# Altium schematic symbol library Mechanical_components.SchLib: 7 symbols
Pins are listed as number, name and electrical type; pins without a type are passive.

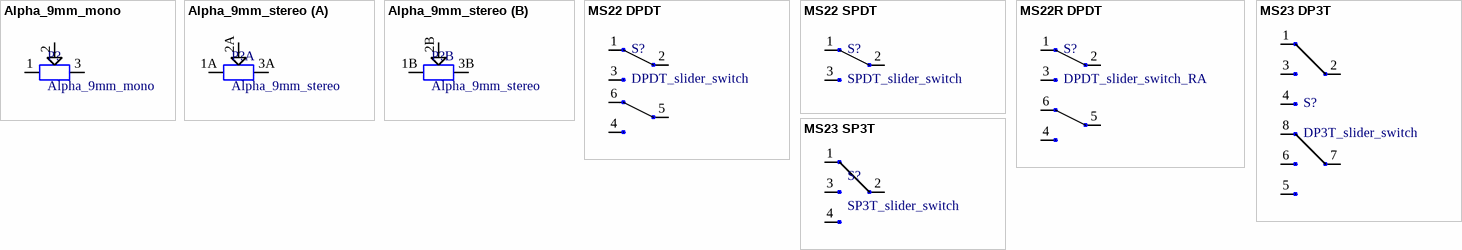
[diagram p0: symbols Alpha_9mm_mono to MS23 SP3T]

## Alpha_9mm_mono
designator P?
Alpha 9mm mono potentiometer THT; Value: *; Taper: *
footprint Alpha_9mm_mono
pins: 1, 2, 3

## Alpha_9mm_stereo
designator P?
Alpha 9mm stereo potentiometer THT; Value: *; Taper: *
footprint Alpha_9mm_stereo
part A pins: 1A, 2A, 3A
part B pins: 1B, 2B, 3B

## MS22 DPDT
designator S?, comment DPDT_slider_switch
Dual pole double throw on/on slider switch
footprint MS22 (MS22 DPDT right angle slider switch)
pins: 1, 2, 3, 4, 5, 6

## MS22 SPDT
designator S?, comment SPDT_slider_switch
Single pole double throw on/on slider switch
footprint MS22 (MS22 DPDT right angle slider switch)
pins: 1, 2, 3

## MS22R DPDT
designator S?, comment DPDT_slider_switch_RA
Dual pole double throw on/on slider switch right angled
footprint MS22R (MS22R SPDT right angle slider switch)
pins: 1, 2, 3, 4, 5, 6

## MS23 DP3T
designator S?, comment DP3T_slider_switch
Dual pole three throw on/on/on slider switch
footprint MS23
pins: 1, 2, 3, 4, 5, 6, 7, 8

## MS23 SP3T
designator S?, comment SP3T_slider_switch
Single pole three throw on/on/on slider switch
footprint MS23
pins: 1, 2, 3, 4